# Altium schematic symbol library CUS-12B_switch.SchLib: 1 symbol
Pins are listed as number, name and electrical type; pins without a type are passive.

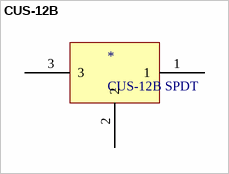
[diagram p0: symbol CUS-12B]

## CUS-12B
designator *, comment CUS-12B SPDT
footprint CUS-12B (CUS-12B switch)
pins: 1, 2, 3